# Altium footprint library LED.PcbLib: 43 footprints (part 3 of 3)
Each footprint in its own frame and in the unit in brackets; x right, y up, seen from the top. Pads: shape width x height; smd on the part's side, far side on the other; paste and mask are expansions set on the pad; w line width, h text height; cw(c..) or ccw(c..) is an arc to the next point about the centre after c.
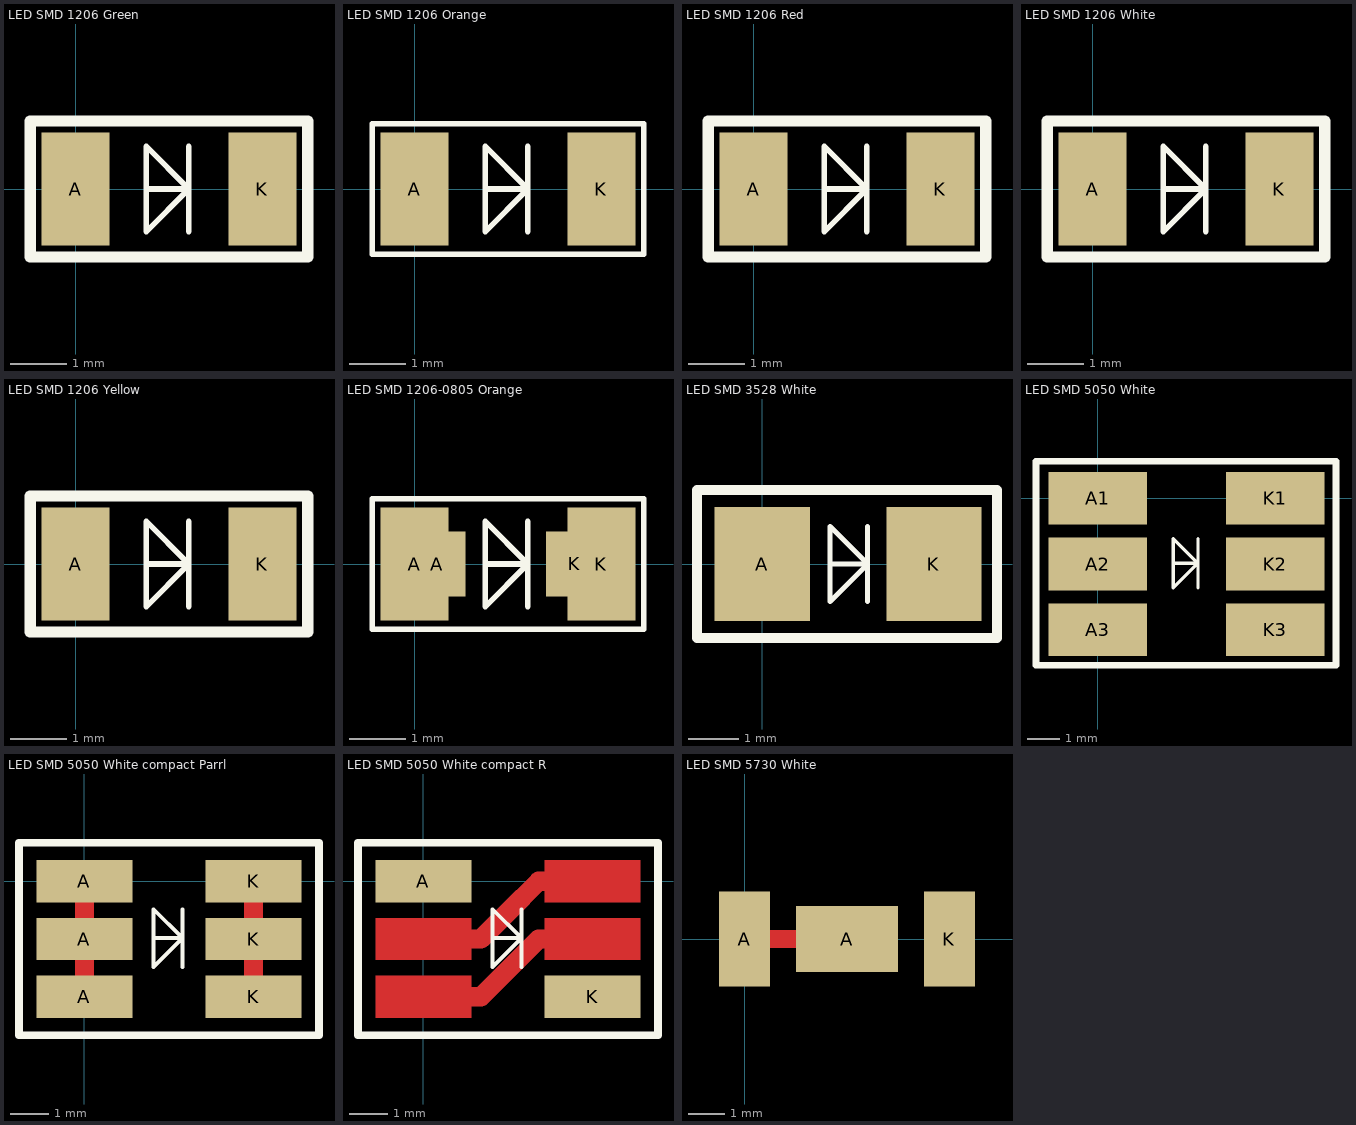
[diagram p2: the footprints below, top view; thin cyan lines are the x and y axes]

## LED SMD 1206 Green [mm]
pads (2):
  rect 1.2x2 smd: A(0,0) K(3.3,0)
Top Overlay:
  lines w0.1: 1.25,0 2,0 ; 2,-0.75 2,0.75 ; 2,0 1.25,0.75 1.25,-0.75 2,0
  lines w0.2: -0.8,-1.2 -0.8,1.2 4.1,1.2 4.1,-1.2 -0.8,-1.2
3D body "LED 1206 Green.step": height 1.1, standoff 0, extent 0.065,-0.825 3.285,0.775

## LED SMD 1206 Orange [mm]
pads (2):
  rect 1.2x2 smd: A(0,0) K(3.3,0)
Top Overlay:
  lines w0.1: 1.25,0 2,0 ; 2,-0.75 2,0.75 ; 2,0 1.25,0.75 1.25,-0.75 2,0 ; -0.75,-1.15 -0.75,1.15 4.05,1.15 4.05,-1.15 -0.75,-1.15
3D body "LED 1206 Orange.step": height 1.1, standoff 0, extent 0.04,-0.825 3.26,0.775

## LED SMD 1206 Red [mm]
pads (2):
  rect 1.2x2 smd: A(0,0) K(3.3,0)
Top Overlay:
  lines w0.1: 1.25,0 2,0 ; 2,-0.75 2,0.75 ; 2,0 1.25,0.75 1.25,-0.75 2,0
  lines w0.2: -0.8,-1.2 -0.8,1.2 4.1,1.2 4.1,-1.2 -0.8,-1.2
3D body "LED 1206 Red.step": height 1.1, standoff 0, extent 0.04,-0.825 3.26,0.775

## LED SMD 1206 White [mm]
pads (2):
  rect 1.2x2 smd: A(0,0) K(3.3,0)
Top Overlay:
  lines w0.1: 1.25,0 2,0 ; 2,-0.75 2,0.75 ; 2,0 1.25,-0.75 1.25,0.75 2,0
  lines w0.2: -0.8,-1.2 4.1,-1.2 4.1,1.2 -0.8,1.2 -0.8,-1.2
3D body "LED 1206 White (FYLS-1206).step": height 1.1, standoff 0, extent 0.052,-0.79 3.252,0.81

## LED SMD 1206 Yellow [mm]
pads (2):
  rect 1.2x2 smd: A(0,0) K(3.3,0)
Top Overlay:
  lines w0.1: 1.25,0 2,0 ; 2,-0.75 2,0.75 ; 2,0 1.25,-0.75 1.25,0.75 2,0
  lines w0.2: -0.8,-1.2 4.1,-1.2 4.1,1.2 -0.8,1.2 -0.8,-1.2
3D body "LED 1206 Yellow.step": height 1.1, standoff 0, extent 0.04,-0.825 3.26,0.775

## LED SMD 1206-0805 Orange [mm]
pads (4):
  rect 1.2x2 smd: A(0,0) K(3.3,0)
  rect 1x1.143 smd: A(0.4,0) K(2.825,0)
Top Overlay:
  lines w0.1: 1.25,0 2,0 ; 2,-0.75 2,0.75 ; 2,0 1.25,-0.75 1.25,0.75 2,0 ; -0.75,-1.15 4.05,-1.15 4.05,1.15 -0.75,1.15 -0.75,-1.15
3D body "LED 1206 Orange.step": height 1.1, standoff 0, extent 0.04,-0.825 3.26,0.775

## LED SMD 3528 White [mm]
pads (2):
  rect 1.9x2.28 smd: A(0,0) K(3.42,0)
Top Overlay:
  lines w0.1: 1.35,0 2.1,0 ; 2.1,-0.75 2.1,0.75 ; 2.1,0 1.35,0.75 1.35,-0.75 2.1,0
  lines w0.2: -1.3,-1.475 4.675,-1.475 4.675,1.475 -1.3,1.475 -1.3,-1.475
3D body "LED_3528_White.step": height 1.9, standoff 0, extent -0.025,-1.4 3.475,1.4

## LED SMD 5050 White [mm]
height 1.5
pads (6):
  rect 3x1.6 smd: A1(0,0) A2(0,-2) A3(0,-4) K1(5.4,0) K2(5.4,-2) K3(5.4,-4)
Top Overlay:
  lines w0.1: 2.3,-1.975 3.05,-1.975 ; 3.05,-2.725 3.05,-1.225 ; 3.05,-1.975 2.3,-2.725 2.3,-1.225 3.05,-1.975
  lines w0.2: -1.875,-5.075 7.25,-5.075 7.25,1.125 -1.875,1.125 -1.875,-5.075
3D body "LED_5050_White.step": height 1.6, standoff 0, extent 0.05,-4.45 5.35,0.55

## LED SMD 5050 White compact Parrl [mm]
height 1.5
pads (6):
  rect 2.5x1.1 smd: A(0,-3) A(0,-1.5) A(0,0) K(4.4,-3) K(4.4,-1.5) K(4.4,0)
Top Layer:
  lines w0.5: 0,-3 0,0 ; 4.4,-3 4.4,0
Top Overlay:
  lines w0.1: 1.8,-1.475 2.55,-1.475 ; 2.55,-2.225 2.55,-0.725 ; 2.55,-1.475 1.8,-0.725 1.8,-2.225 2.55,-1.475
  lines w0.2: -1.7,-4 6.1,-4 6.1,1 -1.7,1 -1.7,-4
3D body "LED_5050_White.step": height 1.6, standoff 0, extent -0.45,-4 4.85,1

## LED SMD 5050 White compact R [mm]
height 1.5
pads (2):
  rect 2.5x1.1 smd: A(0,0) K(4.4,-3)
Top Layer:
  rectangle: -1.25,-3.55 1.25,-2.45
  rectangle: -1.25,-2.05 1.25,-0.95
  rectangle: 3.15,-2.05 5.65,-0.95
  rectangle: 3.15,-0.55 5.65,0.55
  lines w0.5: 0,-3 1.5,-3 2.3,-2.2 3,-1.5 4.4,-1.5 ; 0,-1.5 1.5,-1.5 2.2,-0.8 3,0 4.4,0
Top Overlay:
  lines w0.1: 1.8,-1.475 2.55,-1.475 ; 2.55,-2.225 2.55,-0.725 ; 2.55,-1.475 1.8,-0.725 1.8,-2.225 2.55,-1.475
  lines w0.2: -1.7,-4 6.1,-4 6.1,1 -1.7,1 -1.7,-4
3D body "LED_5050_White.step": height 1.6, standoff 0, extent -0.45,-4 4.85,1

## LED SMD 5730 White [mm]
height 0.77
pads (3):
  rect 1.4x2.6 smd: A(0,0) K(5.6,0)
  rect 2.8x1.8 smd: A(2.8,0)
Top Layer:
  lines w0.5: 0,0 2.8,0
3D body "LED_5630_White2.step": height 0.86, standoff -0.04, extent 0,-1.5 5.6,1.5